# Altium schematic symbol library ThanhNT.SchLib: 223 symbols (part 3 of 3)
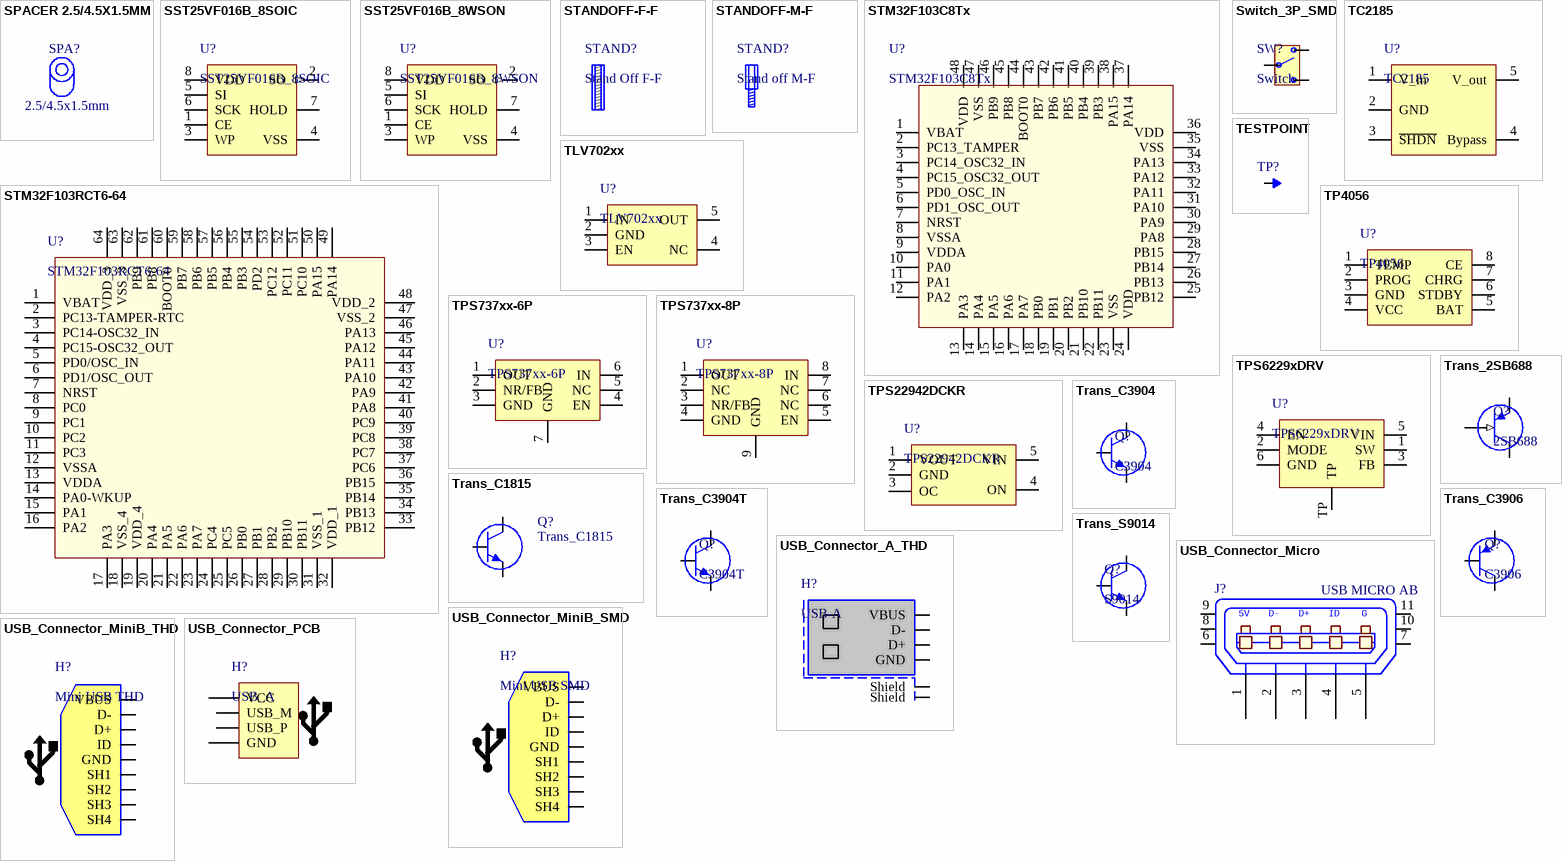
[diagram p8: symbols SPACER 2.5/4.5X1.5MM to USB_Connector_PCB]

## Trans_S9014
designator Q?, comment S9014
Transistor SMD NPN 50V 0.1A
footprint SOT23-3 (SOT23, 3 pin)
pins: 1 B, 2 E, 3 C

## USB_Connector_A_THD
designator H?, comment USB-A
footprint CONN_USB-A-H
pins: D+, D-, GND, SH1 Shield, SH2 Shield, VBUS

## USB_Connector_Micro
designator J?, comment USB MICRO AB
CONN RCPT MICRO USB AB R/A SMD; Manufacturer: Molex Inc; Manufacturer Part Number: 0475890001; Connector Type: USB - micro AB; Number of Contacts: 5; Gender: Receptacle; .Creator: MM; Supplier 1: Digi-Key; RoHS: RoHS Compliant; Category: Connectors, Interconnects; Stock 1: 12754; Pricing 1: 1=0.81, 10=0.764, 25=0.6872, 50=0.6108, 100=0.5854, 250=0.53452, 500=0.50908 (USD); Packaging: Cut Tape (CT); Specifications: -; Mounting Type: Surface Mount, Right Angle, Horizontal; Features: Board Guide, Shielded; Ingress Protection: -; ComponentLink1URL: http://www.molex.com/pdm_docs/sd/475890001_sd.pdf; ComponentLink1Description: http://www.molex.com/pdm_docs/sd/475890001_sd.pdf; Supplier Part Number 1: WM17143CT-ND; .Checked PCB: MM; .Checked SCH: MM
footprint CONN_USB_MICRO_AB
pins: 1 P1, 2 P2, 3 P3, 4 P4, 5 P5, 6, 7, 8, 9, 10, 11
text: 5V; D-; D+; ID; G

## USB_Connector_MiniB_SMD
designator H?, comment Mini USB SMD
footprint CONN_USB-MINIB
footprint CONN_USB-MINIB-OLD
pins: D+, D-, GND, ID, SH1, SH2, SH3, SH4, VBUS

## USB_Connector_MiniB_THD
designator H?, comment Mini USB THD
footprint CONN_USB-MINIB_THD
pins: D+, D-, GND, ID, SH1, SH2, SH3, SH4, VBUS

## USB_Connector_PCB
designator H?, comment USB_A
footprint CONN_USB-A-PCB
pins: 5V VCC, GND, USB_M, USB_P